# Altium schematic symbol library analog_adc.SchLib: 10 symbols
Pins are listed as number, name and electrical type; pins without a type are passive.

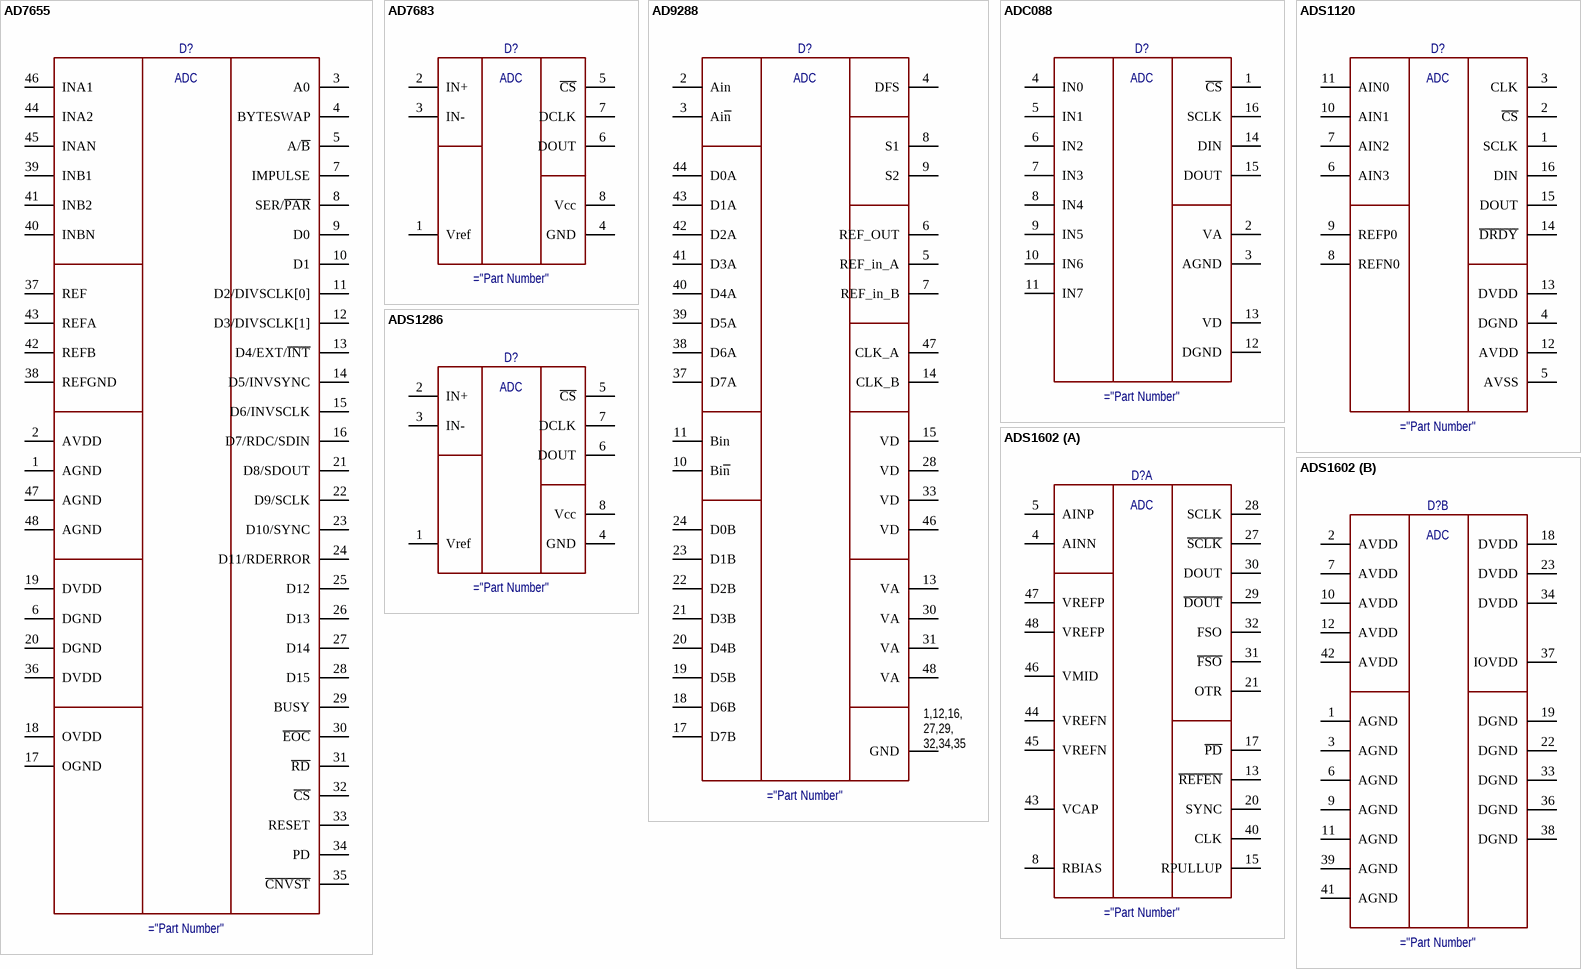
[diagram p0: symbols AD7655 to ADS1602]

## AD7655
designator D?
ADC 16-bit, 4ch
pins: 1 AGND, 2 AVDD, 3 A0, 4 BYTESWAP, 5 A/~{B}, 6 DGND, 7 IMPULSE, 8 SER/~{PAR}, 9 D0, 10 D1, 11 D2/DIVSCLK[0], 12 D3/DIVSCLK[1], 13 D4/EXT/~{INT}, 14 D5/INVSYNC, 15 D6/INVSCLK, 16 D7/RDC/SDIN, 17 OGND, 18 OVDD, 19 DVDD, 20 DGND, 21 D8/SDOUT, 22 D9/SCLK, 23 D10/SYNC, 24 D11/RDERROR, 25 D12, 26 D13, 27 D14, 28 D15, 29 BUSY, 30 ~{EOC}, 31 ~{RD}, 32 ~{CS}, 33 RESET, 34 PD, 35 ~{CNVST}, 36 DVDD, 37 REF, 38 REFGND, 39 INB1, 40 INBN, 41 INB2, 42 REFB, 43 REFA, 44 INA2, 45 INAN, 46 INA1, 47 AGND, 48 AGND
text: ADC

## AD7683
designator D?
ADC 16-Bit, 100 kSPS
pins: 1 Vref, 2 IN+, 3 IN-, 4 GND, 5 ~{CS}, 6 DOUT, 7 DCLK, 8 Vcc
text: ADC

## AD9288
designator D?
ADC 8-Bit, 40/80/100 MSPS, Dual
pins: 1 GND, 2 Ain, 3 Ai~{n}, 4 DFS, 5 REF_in_A, 6 REF_OUT, 7 REF_in_B, 8 S1, 9 S2, 10 Bi~{n}, 11 Bin, 12 GND, 13 VA, 14 CLK_B, 15 VD, 16 GND, 17 D7B, 18 D6B, 19 D5B, 20 D4B, 21 D3B, 22 D2B, 23 D1B, 24 D0B, 25 NC hidden, 26 NC hidden, 27 GND, 28 VD, 29 GND, 30 VA, 31 VA, 32 GND, 33 VD, 34 GND, 35 NC hidden, 36 NC hidden, 37 D7A, 38 D6A, 39 D5A, 40 D4A, 41 D3A, 42 D2A, 43 D1A, 44 D0A, 46 VD, 47 CLK_A, 48 VA
text: ADC; 1,12,16, / 27,29, / 32,34,35

## ADC088
designator D?
ADC 8-bit, 8ch
pins: 1 ~{CS}, 2 VA, 3 AGND, 4 IN0, 5 IN1, 6 IN2, 7 IN3, 8 IN4, 9 IN5, 10 IN6, 11 IN7, 12 DGND, 13 VD, 14 DIN, 15 DOUT, 16 SCLK
text: ADC

## ADS1120
designator D?
ADC 16-bit, 4ch
pins: 1 SCLK, 2 ~{CS}, 3 CLK, 4 DGND, 5 AVSS, 6 AIN3, 7 AIN2, 8 REFN0, 9 REFP0, 10 AIN1, 11 AIN0, 12 AVDD, 13 DVDD, 14 ~{DRDY}, 15 DOUT, 16 DIN
text: ADC

## ADS1286
designator D?
ADC 12-bit
pins: 1 Vref, 2 IN+, 3 IN-, 4 GND, 5 ~{CS}, 6 DOUT, 7 DCLK, 8 Vcc
text: ADC

## ADS1602
designator D?
ADC 16-bit
part A pins: 4 AINN, 5 AINP, 8 RBIAS, 13 ~{REFEN}, 14 NC hidden, 15 RPULLUP, 16 NC hidden, 17 ~{PD}, 20 SYNC, 21 OTR, 24 NC hidden, 25 NC hidden, 26 NC hidden, 27 ~{SCLK}, 28 SCLK, 29 ~{DOUT}, 30 DOUT, 31 ~{FSO}, 32 FSO, 35 NC hidden, 40 CLK, 43 VCAP, 44 VREFN, 45 VREFN, 46 VMID, 47 VREFP, 48 VREFP
part B pins: 1 AGND, 2 AVDD, 3 AGND, 6 AGND, 7 AVDD, 9 AGND, 10 AVDD, 11 AGND, 12 AVDD, 18 DVDD, 19 DGND, 22 DGND, 23 DVDD, 33 DGND, 34 DVDD, 36 DGND, 37 IOVDD, 38 DGND, 39 AGND, 41 AGND, 42 AVDD
part A text: ADC
part B text: ADC

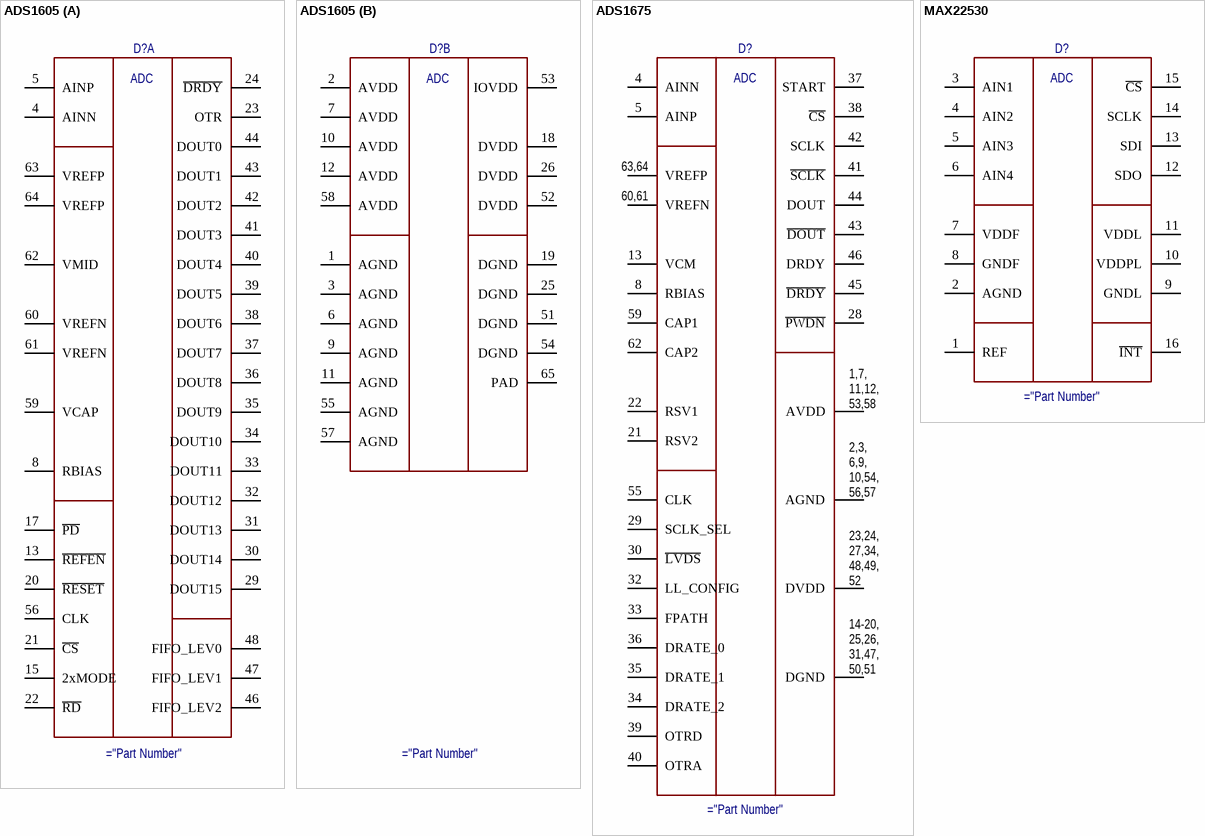
[diagram p1: symbols ADS1605 to MAX22530]

## ADS1605
designator D?
ADC 16-bit, 5 MSPS
part A pins: 4 AINN, 5 AINP, 8 RBIAS, 13 ~{REFEN}, 14 NC hidden, 15 2xMODE, 16 NC hidden, 17 ~{PD}, 20 ~{RESET}, 21 ~{CS}, 22 ~{RD}, 23 OTR, 24 ~{DRDY}, 27 NC hidden, 28 NC hidden, 29 DOUT15, 30 DOUT14, 31 DOUT13, 32 DOUT12, 33 DOUT11, 34 DOUT10, 35 DOUT9, 36 DOUT8, 37 DOUT7, 38 DOUT6, 39 DOUT5, 40 DOUT4, 41 DOUT3, 42 DOUT2, 43 DOUT1, 44 DOUT0, 45 NC hidden, 46 FIFO_LEV2, 47 FIFO_LEV1, 48 FIFO_LEV0, 50 NC hidden, 56 CLK, 59 VCAP, 60 VREFN, 61 VREFN, 62 VMID, 63 VREFP, 64 VREFP
part B pins: 1 AGND, 2 AVDD, 3 AGND, 6 AGND, 7 AVDD, 9 AGND, 10 AVDD, 11 AGND, 12 AVDD, 18 DVDD, 19 DGND, 25 DGND, 26 DVDD, 51 DGND, 52 DVDD, 53 IOVDD, 54 DGND, 55 AGND, 57 AGND, 58 AVDD, 65 PAD
part A text: ADC
part B text: ADC

## ADS1675
designator D?
ADC, 4MSPS 24-Bit
pins: 1 AVDD, 2 AGND, 3 AGND, 4 AINN, 5 AINP, 6 AGND, 7 AVDD, 8 RBIAS, 9 AGND, 10 AGND, 11 AVDD, 12 AVDD, 13 VCM, 14 DGND, 15 DGND, 16 DGND, 17 DGND, 18 DGND, 19 DGND, 20 DGND, 21 RSV2, 22 RSV1, 23 DVDD, 24 DVDD, 25 DGND, 26 DGND, 27 DVDD, 28 ~{PWDN}, 29 SCLK_SEL, 30 ~{LVDS}, 31 DGND, 32 LL_CONFIG, 33 FPATH, 34 DRATE_2, 35 DRATE_1, 36 DRATE_0, 37 START, 38 ~{CS}, 39 OTRD, 40 OTRA, 41 ~{SCLK}, 42 SCLK, 43 ~{DOUT}, 44 DOUT, 45 ~{DRDY}, 46 DRDY, 47 DGND, 48 DVDD, 49 DVDD, 50 DGND, 51 DGND, 52 DVDD, 53 AVDD, 54 AGND, 55 CLK, 56 AGND, 57 AGND, 58 AVDD, 59 CAP1, 60 VREFN, 61 VREFN, 62 CAP2, 63 VREFP, 64 VREFP
text: ADC; 63,64; 60,61; 1,7, / 11,12, / 53,58; 2,3, / 6,9, / 10,54, / 56,57; 23,24, / 27,34, / 48,49, / 52; 14-20, / 25,26, / 31,47, / 50,51

## MAX22530
designator D?
ADC 12-bit, 4ch, isolated, 20 Ksps
pins: 1 REF, 2 AGND, 3 AIN1, 4 AIN2, 5 AIN3, 6 AIN4, 7 VDDF, 8 GNDF, 9 GNDL, 10 VDDPL, 11 VDDL, 12 SDO, 13 SDI, 14 SCLK, 15 ~{CS}, 16 ~{INT}
text: ADC